# EAGLE library part ARDUINO_MEGA (library IGEN330-Library1)
ARDUINO UNO REV3 DEVELOPMENT BOARD Check prices <https://pricing.snapeda.com/parts/A000067/Arduino/view-part?ref=eda>
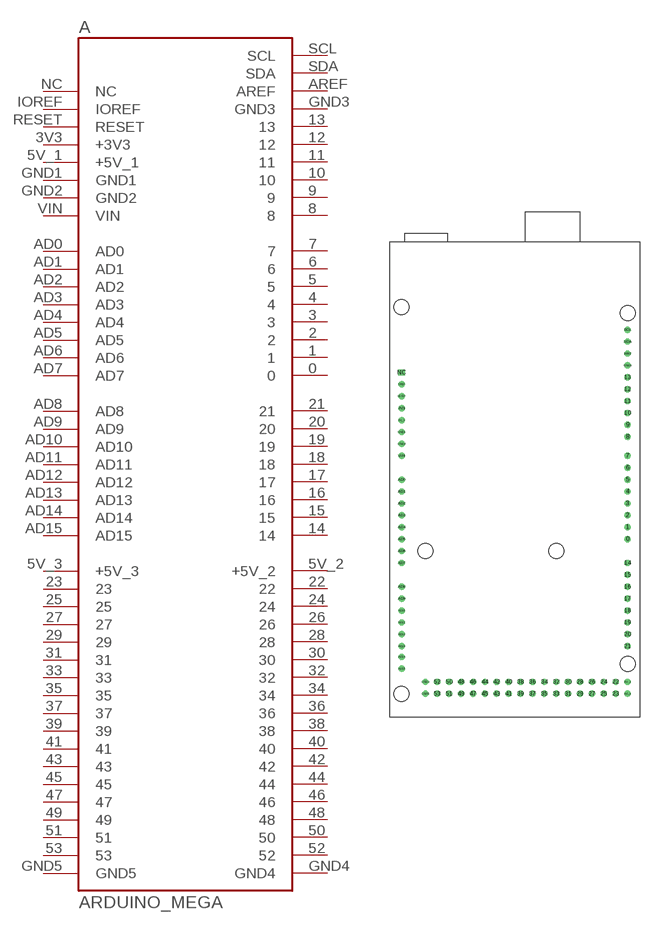
[diagram p0: symbol with the pads of ARDUINO_A000067_MEGA; footprint ARDUINO_A000067_MEGA]

Designator prefix A

## ARDUINO_MEGA (AVAILABILITY: Good; DESCRIPTION: ATmega2560 Arduino Mega2560 AVR® ATmega AVR MCU 8-Bit Embedded Evaluation Board; MF: Arduino; MP: A000067; PACKAGE: None; PRICE: None; PURCHASE-URL: https://pricing.snapeda.com/search/part/A000067/?ref=eda)  [ARDUINO_A000067_MEGA]
0  0  pas
1  1  pas
2  2  pas
3  3  pas
3V3  +3V3  pas
4  4  pas
5  5  pas
5V_1  +5V_1  pas
5V_2  +5V_2  pas
5V_3  +5V_3  pas
6  6  pas
7  7  pas
8  8  pas
9  9  pas
10  10  pas
11  11  pas
12  12  pas
13  13  pas
14  14  pas
15  15  pas
16  16  pas
17  17  pas
18  18  pas
19  19  pas
20  20  pas
21  21  pas
22  22  pas
23  23  pas
24  24  pas
25  25  pas
26  26  pas
27  27  pas
28  28  pas
29  29  pas
30  30  pas
31  31  pas
32  32  pas
33  33  pas
34  34  pas
35  35  pas
36  36  pas
37  37  pas
38  38  pas
39  39  pas
40  40  pas
41  41  pas
42  42  pas
43  43  pas
44  44  pas
45  45  pas
46  46  pas
47  47  pas
48  48  pas
49  49  pas
50  50  pas
51  51  pas
52  52  pas
53  53  pas
AD0  AD0  pas
AD1  AD1  pas
AD2  AD2  pas
AD3  AD3  pas
AD4  AD4  pas
AD5  AD5  pas
AD6  AD6  pas
AD7  AD7  pas
AD8  AD8  pas
AD9  AD9  pas
AD10  AD10  pas
AD11  AD11  pas
AD12  AD12  pas
AD13  AD13  pas
AD14  AD14  pas
AD15  AD15  pas
AREF  AREF  pas
GND1  GND1  pas
GND2  GND2  pas
GND3  GND3  pas
GND4  GND4  pas
GND5  GND5  pas
IOREF  IOREF  pas
NC  NC  pas
RESET  RESET  pas
SCL  SCL  pas
SDA  SDA  pas
VIN  VIN  pas

## Footprint ARDUINO_A000067_MEGA (pad centres in mm)
drill 0.85: 0 24.13,-12.7; 1 24.13,-10.16; 2 24.13,-7.62; 3 24.13,-5.08; 3V3 -24.13,15.24; 4 24.13,-2.54; 5 24.13,0; 5V_1 -24.13,12.7; 5V_2 24.13,-43.18; 5V_3 24.13,-45.72; 6 24.13,2.54; 7 24.13,5.08; 8 24.13,9.144; 9 24.13,11.684; 10 24.13,14.224; 11 24.13,16.764; 12 24.13,19.304; 13 24.13,21.844; 14 24.13,-17.78; 15 24.13,-20.32; 16 24.13,-22.86; 17 24.13,-25.4; 18 24.13,-27.94; 19 24.13,-30.48; 20 24.13,-33.02; 21 24.13,-35.56; 22 21.59,-43.18; 23 21.59,-45.72; 24 19.05,-43.18; 25 19.05,-45.72; 26 16.51,-43.18; 27 16.51,-45.72; 28 13.97,-43.18; 29 13.97,-45.72; 30 11.43,-43.18; 31 11.43,-45.72; 32 8.89,-43.18; 33 8.89,-45.72; 34 6.35,-43.18; 35 6.35,-45.72; 36 3.81,-43.18; 37 3.81,-45.72; 38 1.27,-43.18; 39 1.27,-45.72; 40 -1.27,-43.18; 41 -1.27,-45.72; 42 -3.81,-43.18; 43 -3.81,-45.72; 44 -6.35,-43.18; 45 -6.35,-45.72; 46 -8.89,-43.18; 47 -8.89,-45.72; 48 -11.43,-43.18; 49 -11.43,-45.72; 50 -13.97,-43.18; 51 -13.97,-45.72; 52 -16.51,-43.18; 53 -16.51,-45.72; AD0 -24.13,0; AD1 -24.13,-2.54; AD2 -24.13,-5.08; AD3 -24.13,-7.62; AD4 -24.13,-10.16; AD5 -24.13,-12.7; AD6 -24.13,-15.24; AD7 -24.13,-17.78; AD8 -24.13,-22.86; AD9 -24.13,-25.4; AD10 -24.13,-27.94; AD11 -24.13,-30.48; AD12 -24.13,-33.02; AD13 -24.13,-35.56; AD14 -24.13,-37.846; AD15 -24.13,-40.386; AREF 24.13,26.924; GND1 -24.13,10.16; GND2 -24.13,7.62; GND3 24.13,24.384; GND4 -19.05,-43.18; GND5 -19.05,-45.72; IOREF -24.13,20.32; RESET -24.13,17.78; SCL 24.13,32.004; SDA 24.13,29.464; VIN -24.13,5.08
drill 0.85 square: NC -24.13,22.86
hole 3.2 at -24.13,36.83
hole 3.2 at -19.05,-15.24
hole 3.2 at 8.89,-15.24
hole 3.2 at 24.13,35.56
hole 3.2 at -24.13,-45.72
hole 3.2 at 24.13,-39.37